# Altium footprint library AD.PcbLib: 13 footprints
Each footprint in its own frame and in the unit in brackets; x right, y up, seen from the top. Pads: shape width x height; smd on the part's side, far side on the other; paste and mask are expansions set on the pad; w line width, h text height; cw(c..) or ccw(c..) is an arc to the next point about the centre after c.
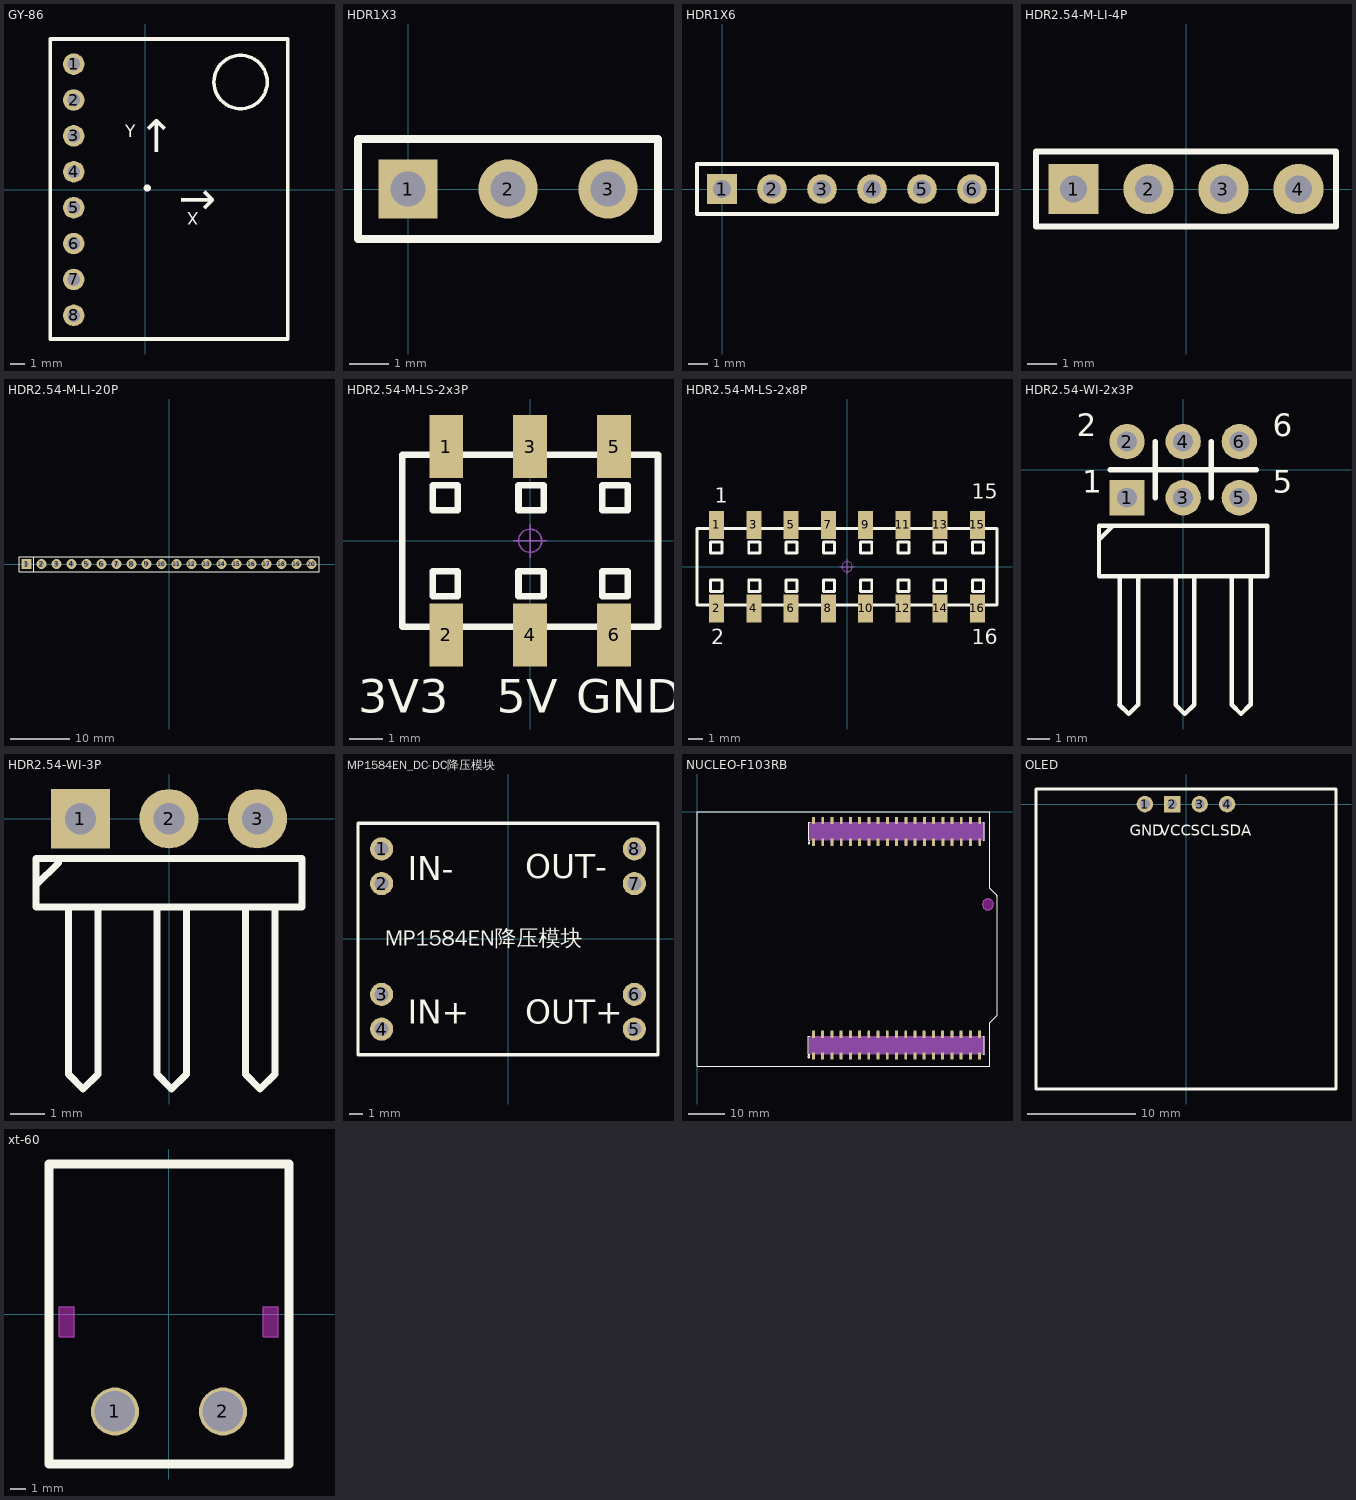
[diagram p0: the footprints below, top view; thin cyan lines are the x and y axes]

## GY-86 [mil]
pads (8):
  round 60 hole 36: 1(-200,350) 2(-200,250) 3(-200,150) 4(-200,50) 5(-200,-50) 6(-200,-150) 7(-200,-250) 8(-200,-350)
Top Overlay:
  circle w10: c265,300 r74.33
  circle w10: c5,5 r5
  lines w10: -265,-415.98 395.98,-415.98 395.98,420 -265,420 -265,-415.98
  text "↑" at 69.05,23.78 h157.48
  text "↑" at -20.95,73.78 h157.48
  text "Y" at -55.95,133.78 h59.05
  text "X" at 149.05,-50 h59.05

## HDR1X3 [mm] "Connector; Header; 3 Position"
pads (3):
  rect 1.5x1.5 hole 0.9: 1(0,0)
  round 1.5 hole 0.9: 2(2.54,0) 3(5.08,0)
Top Overlay:
  lines w0.2: -1.27,-1.27 6.35,-1.27 6.35,1.27 -1.27,1.27 -1.27,-1.27
3D body "HDR2.54-1P_M.STEP": height 8.5, standoff -3, extent 3.81,-1.27 6.35,1.27
3D body "HDR2.54-1P_M.STEP": height 8.5, standoff -3, extent 1.27,-1.27 3.81,1.27
3D body "HDR2.54-1P_M.STEP": height 8.5, standoff -3, extent -1.27,-1.27 1.27,1.27

## HDR1X6 [mm] "Connector; Header; 6 Position"
pads (6):
  rect 1.5x1.5 hole 0.9: 1(0,0)
  round 1.5 hole 0.9: 2(2.54,0) 3(5.08,0) 4(7.62,0) 5(10.16,0) 6(12.7,0)
Top Overlay:
  lines w0.2: -1.27,-1.27 13.97,-1.27 13.97,1.27 -1.27,1.27 -1.27,-1.27
3D body "HDR2.54-1P_M.STEP": height 8.5, standoff -3, extent -1.27,-1.27 1.27,1.27
3D body "HDR2.54-1P_M.STEP": height 8.5, standoff -3, extent 1.27,-1.27 3.81,1.27
3D body "HDR2.54-1P_M.STEP": height 8.5, standoff -3, extent 3.81,-1.27 6.35,1.27
3D body "HDR2.54-1P_M.STEP": height 8.5, standoff -3, extent 6.35,-1.27 8.89,1.27
3D body "HDR2.54-1P_M.STEP": height 8.5, standoff -3, extent 8.89,-1.27 11.43,1.27
3D body "HDR2.54-1P_M.STEP": height 8.5, standoff -3, extent 11.43,-1.27 13.97,1.27

## HDR2.54-M-LI-4P [mm] "排母，4脚"
pads (4):
  rect 1.7x1.7 hole 0.9: 1(-3.81,0)
  round 1.7 hole 0.9: 2(-1.27,0) 3(1.27,0) 4(3.81,0)
Top Overlay:
  lines w0.2: -5.08,-1.27 -5.08,1.27 5.08,1.27 5.08,-1.27 -5.08,-1.27
3D body "HDR2.54-1P_M.STEP": height 8.5, standoff -3, extent -5.08,-1.27 -2.54,1.27
3D body "HDR2.54-1P_M.STEP": height 8.5, standoff -3, extent -2.54,-1.27 0,1.27
3D body "HDR2.54-1P_M.STEP": height 8.5, standoff -3, extent 2.54,-1.27 5.08,1.27
3D body "HDR2.54-1P_M.STEP": height 8.5, standoff -3, extent 0,-1.27 2.54,1.27

## HDR2.54-M-LI-20P [mm] "排母，20脚"
pads (20):
  rect 1.7x1.7 hole 0.9: 1(-24.13,0)
  round 1.7 hole 0.9: 2(-21.59,0) 3(-19.05,0) 4(-16.51,0) 5(-13.97,0) 6(-11.43,0) 7(-8.89,0) 8(-6.35,0) 9(-3.81,0) 10(-1.27,0) 11(1.27,0) 12(3.81,0) 13(6.35,0) 14(8.89,0) 15(11.43,0) 16(13.97,0)
  round 1.7 hole 0.762: 17(16.51,0) 18(19.05,0) 19(21.59,0) 20(24.13,0)
Top Overlay:
  lines w0.2: -22.88,-1.25 -22.88,1.25 ; -25.4,-1.27 25.4,-1.27 25.4,1.27 -23.495,1.27 -25.4,1.27 -25.4,-1.27
3D body "HDR2.54-1P_M.STEP": height 8.5, standoff -3, extent -15.24,-1.27 -12.7,1.27
3D body "HDR2.54-1P_M.STEP": height 8.5, standoff -3, extent -17.78,-1.27 -15.24,1.27
3D body "HDR2.54-1P_M.STEP": height 8.5, standoff -3, extent -20.32,-1.27 -17.78,1.27
3D body "HDR2.54-1P_M.STEP": height 8.5, standoff -3, extent -22.86,-1.27 -20.32,1.27
3D body "HDR2.54-1P_M.STEP": height 8.5, standoff -3, extent -25.4,-1.27 -22.86,1.27
3D body "HDR2.54-1P_M.STEP": height 8.5, standoff -3, extent -2.54,-1.27 0,1.27
3D body "HDR2.54-1P_M.STEP": height 8.5, standoff -3, extent -5.08,-1.27 -2.54,1.27
3D body "HDR2.54-1P_M.STEP": height 8.5, standoff -3, extent -7.62,-1.27 -5.08,1.27
3D body "HDR2.54-1P_M.STEP": height 8.5, standoff -3, extent -10.16,-1.27 -7.62,1.27
3D body "HDR2.54-1P_M.STEP": height 8.5, standoff -3, extent -12.7,-1.27 -10.16,1.27
3D body "HDR2.54-1P_M.STEP": height 8.5, standoff -3, extent 10.16,-1.27 12.7,1.27
3D body "HDR2.54-1P_M.STEP": height 8.5, standoff -3, extent 7.62,-1.27 10.16,1.27
3D body "HDR2.54-1P_M.STEP": height 8.5, standoff -3, extent 5.08,-1.27 7.62,1.27
3D body "HDR2.54-1P_M.STEP": height 8.5, standoff -3, extent 2.54,-1.27 5.08,1.27
3D body "HDR2.54-1P_M.STEP": height 8.5, standoff -3, extent 0,-1.27 2.54,1.27
3D body "HDR2.54-1P_M.STEP": height 8.5, standoff -3, extent 22.86,-1.27 25.4,1.27
3D body "HDR2.54-1P_M.STEP": height 8.5, standoff -3, extent 20.32,-1.27 22.86,1.27
3D body "HDR2.54-1P_M.STEP": height 8.5, standoff -3, extent 17.78,-1.27 20.32,1.27
3D body "HDR2.54-1P_M.STEP": height 8.5, standoff -3, extent 15.24,-1.27 17.78,1.27
3D body "HDR2.54-1P_M.STEP": height 8.5, standoff -3, extent 12.7,-1.27 15.24,1.27

## HDR2.54-M-LS-2x3P [mm] "脚距：2.54mm，贴片双排母"
pads (6):
  rect 1.02x1.9 smd: 1(-2.54,2.85) 2(-2.54,-2.85) 3(0,2.85) 4(0,-2.85) 5(2.54,2.85) 6(2.54,-2.85)
Top Overlay:
  lines w0.2: -3.87,-2.6 3.87,-2.6 3.87,2.6 -3.87,2.6 -3.87,-2.6 ; -2.951,-1.681 -2.189,-1.681 -2.189,-0.919 -2.951,-0.919 -2.951,-1.681 ; -2.951,0.919 -2.189,0.919 -2.189,1.681 -2.951,1.681 -2.951,0.919 ; -0.351,-1.681 0.411,-1.681 0.411,-0.919 -0.351,-0.919 -0.351,-1.681 ; -0.351,0.919 0.411,0.919 0.411,1.681 -0.351,1.681 -0.351,0.919 ; 2.189,-1.681 2.189,-0.919 2.951,-0.919 2.951,-1.681 2.189,-1.681 ; 2.189,0.919 2.189,1.681 2.951,1.681 2.951,0.919 2.189,0.919
  text "5V" at -1.016,-5.207 h1.02
  text "3V3" at -5.207,-5.207 h1.02
  text "GND" at 1.397,-5.207 h1.02
Top Courtyard:
  circle w0.05: c0,0 r0.35
  lines w0.05: -0.5,0 0.5,0 ; 0,-0.5 0,0.5
3D body "HDR2.54 2x1P_M.STEP": height 5.15, standoff 0, extent -3.84,-3.2 -1.24,3.2
3D body "HDR2.54 2x1P_M.STEP": height 5.15, standoff 0, extent -1.3,-3.2 1.3,3.2
3D body "HDR2.54 2x1P_M.STEP": height 5.15, standoff 0, extent 1.24,-3.2 3.84,3.2

## HDR2.54-M-LS-2x8P [mm] "脚距：2.54mm，贴片双排母"
pads (16):
  rect 1.02x1.9 smd: 1(-8.89,2.85) 2(-8.89,-2.85) 3(-6.35,2.85) 4(-6.35,-2.85) 5(-3.81,2.85) 6(-3.81,-2.85) 7(-1.27,2.85) 8(-1.27,-2.85) 9(1.27,2.85) 10(1.27,-2.85) 11(3.81,2.85) 12(3.81,-2.85) 13(6.35,2.85) 14(6.35,-2.85) 15(8.89,2.85) 16(8.89,-2.85)
Top Overlay:
  lines w0.2: -10.23,-2.6 -10.23,2.6 10.22,2.6 10.22,-2.6 -10.23,-2.6 ; -9.301,-1.681 -9.301,-0.919 -8.539,-0.919 -8.539,-1.681 -9.301,-1.681 ; -9.301,0.919 -9.301,1.681 -8.539,1.681 -8.539,0.919 -9.301,0.919 ; -6.701,-1.681 -6.701,-0.919 -5.939,-0.919 -5.939,-1.681 -6.701,-1.681 ; -6.701,0.919 -6.701,1.681 -5.939,1.681 -5.939,0.919 -6.701,0.919 ; -4.161,-1.681 -3.399,-1.681 -3.399,-0.919 -4.161,-0.919 -4.161,-1.681 ; -4.161,0.919 -3.399,0.919 -3.399,1.681 -4.161,1.681 -4.161,0.919 ; -1.621,-1.681 -1.621,-0.919 -0.859,-0.919 -0.859,-1.681 -1.621,-1.681 ; -1.621,0.919 -1.621,1.681 -0.859,1.681 -0.859,0.919 -1.621,0.919 ; 0.919,-1.681 0.919,-0.919 1.681,-0.919 1.681,-1.681 0.919,-1.681 ; 0.919,0.919 0.919,1.681 1.681,1.681 1.681,0.919 0.919,0.919 ; 3.459,-1.681 3.459,-0.919 4.221,-0.919 4.221,-1.681 3.459,-1.681 ; 3.459,0.919 3.459,1.681 4.221,1.681 4.221,0.919 3.459,0.919 ; 5.939,-1.681 6.701,-1.681 6.701,-0.919 5.939,-0.919 5.939,-1.681 ; 5.939,0.919 6.701,0.919 6.701,1.681 5.939,1.681 5.939,0.919 ; 8.539,-1.681 9.301,-1.681 9.301,-0.919 8.539,-0.919 8.539,-1.681 ; 8.539,0.919 9.301,0.919 9.301,1.681 8.539,1.681 8.539,0.919
  text "16" at 8.509,-5.278 h1.02
  text "15" at 8.509,4.628 h1.02
  text "1" at -9.017,4.374 h1.02
  text "2" at -9.271,-5.278 h1.02
Top Courtyard:
  circle w0.05: c0,0 r0.35
  lines w0.05: -0.5,0 0.5,0 ; 0,-0.5 0,0.5
3D body "HDR2.54 2x1P_M.STEP": height 5.15, standoff 0, extent -5.11,-3.2 -2.51,3.2
3D body "HDR2.54 2x1P_M.STEP": height 5.15, standoff 0, extent -7.65,-3.2 -5.05,3.2
3D body "HDR2.54 2x1P_M.STEP": height 5.15, standoff 0, extent -10.19,-3.2 -7.59,3.2
3D body "HDR2.54 2x1P_M.STEP": height 5.15, standoff 0, extent -2.57,-3.2 0.03,3.2
3D body "HDR2.54 2x1P_M.STEP": height 5.15, standoff 0, extent -0.03,-3.2 2.57,3.2
3D body "HDR2.54 2x1P_M.STEP": height 5.15, standoff 0, extent 2.51,-3.2 5.11,3.2
3D body "HDR2.54 2x1P_M.STEP": height 5.15, standoff 0, extent 5.05,-3.2 7.65,3.2
3D body "HDR2.54 2x1P_M.STEP": height 5.15, standoff 0, extent 7.59,-3.2 10.19,3.2

## HDR2.54-WI-2x3P [mm] "双排弯脚排针，3x2脚"
pads (6):
  rect 1.6x1.6 hole 0.9: 1(-2.54,-1.27)
  round 1.6 hole 0.9: 2(-2.54,1.27) 3(0,-1.27) 4(0,1.27) 5(2.54,-1.27) 6(2.54,1.27)
Top Overlay:
  lines w0.2: -3.81,-3.175 -3.175,-2.54 ; -2.888,-10.634 -2.465,-11.057 -2.041,-10.634 -2.032,-10.625 -2.032,-4.826 ; -2.879,-10.634 -2.879,-4.826 ; -0.348,-10.634 0.075,-11.057 0.499,-10.634 ; -0.339,-10.634 -0.339,-4.826 ; 0.508,-10.634 0.508,-4.826 ; 2.192,-10.634 2.615,-11.057 3.039,-10.634 ; 2.201,-10.634 2.201,-4.826 ; 3.048,-10.634 3.048,-4.826 ; -3.81,-4.826 3.81,-4.826 3.81,-2.54 -3.81,-2.54 -3.81,-4.826
  lines w0.254: -3.302,0 3.302,0 ; -1.27,-1.27 -1.27,1.27 ; 1.27,-1.27 1.27,1.27
  text "6" at 4.064,1.503 h1.02
  text "5" at 4.064,-1.037 h1.02
  text "2" at -4.826,1.503 h1.02
  text "1" at -4.572,-1.037 h1.02
Bottom Overlay:
  lines w0.254: -3.302,0 3.302,0 ; -1.27,-1.27 -1.27,1.27 ; 1.27,-1.27 1.27,1.27
3D body "HDR-1x2_H.STEP": height 5.1, standoff -3, extent -1.27,-10.489 1.27,2.361
3D body "HDR-1x2_H.STEP": height 5.1, standoff -3, extent -3.81,-10.489 -1.27,2.361
3D body "HDR-1x2_H.STEP": height 5.1, standoff -3, extent 1.27,-10.489 3.81,2.361

## HDR2.54-WI-3P [mm] "弯脚排针，3脚"
pads (3):
  rect 1.7x1.7 hole 0.9: 1(-2.54,0)
  round 1.7 hole 0.9: 2(0,0) 3(2.54,0)
Top Overlay:
  lines w0.2: -3.81,-1.905 -3.175,-1.27 ; -2.888,-2.54 -2.888,-7.332 -2.465,-7.755 -2.041,-7.332 -2.032,-7.323 ; -2.041,-7.323 -2.041,-2.54 ; -0.348,-2.54 -0.348,-7.332 0.075,-7.755 0.499,-7.332 ; 0.499,-7.323 0.499,-2.54 ; 2.192,-2.54 2.192,-7.332 2.615,-7.755 3.039,-7.332 ; 3.039,-7.323 3.039,-2.54 ; -3.81,-2.54 -3.81,-1.143 -2.032,-1.143 3.81,-1.143 3.81,-2.54 -3.81,-2.54
3D body "HDR2.54-1P_H.STEP": height 4.85, standoff -3, extent 1.27,-7.77 3.81,1.27
3D body "HDR2.54-1P_H.STEP": height 4.85, standoff -3, extent -1.27,-7.77 1.27,1.27
3D body "HDR2.54-1P_H.STEP": height 4.85, standoff -3, extent -3.81,-7.77 -1.27,1.27

## MP1584EN_DC-DC降压模块 [mm]
pads (8):
  round 1.7 hole 1.05 paste-2539.97 mask+0.051: 1(-9.271,6.604) 2(-9.271,4.064) 3(-9.271,-4.064) 4(-9.271,-6.604) 5(9.271,-6.604) 6(9.271,-4.064) 7(9.271,4.064) 8(9.271,6.604)
Top Overlay:
  lines w0.254: -11,-8.5 11,-8.5 11,8.5 -11,8.5 -11,-8.5
  text "MP1584EN降压模块" at -9.017,-0.889 h2.03
  text "OUT+" at 1.27,-6.223 h1.78
  text "OUT-" at 1.27,4.445 h1.78
  text "IN+" at -7.366,-6.223 h1.78
  text "IN-" at -7.366,4.318 h1.78

## NUCLEO-F103RB [mm]
pads (76):
  rect 0.8x2 smd paste+0 mask+0.051: 1(32,-67.2) 2(32,-61.2) 3(34.54,-67.2) 4(34.54,-61.2) 5(37.08,-67.2) 6(37.08,-61.2) 7(39.62,-67.2) 8(39.62,-61.2) 9(42.16,-67.2) 10(42.16,-61.2) 11(44.7,-67.2) 12(44.7,-61.2) 13(47.24,-67.2) 14(47.24,-61.2) 15(49.78,-67.2) 16(49.78,-61.2) 17(52.32,-67.2) 18(52.32,-61.2) 19(54.86,-67.2) 20(54.86,-61.2) 21(57.4,-67.2) 22(57.4,-61.2) 23(59.94,-67.2) 24(59.94,-61.2) 25(62.48,-67.2) 26(62.48,-61.2) 27(65.02,-67.2) 28(65.02,-61.2) 29(67.56,-67.2) 30(67.56,-61.2) 31(70.1,-67.2) 32(70.1,-61.2) 33(72.64,-67.2) 34(72.64,-61.2) 35(75.18,-67.2) 36(75.18,-61.2) 37(77.72,-67.2) 38(77.72,-61.2) 73(32.04,-8.4) 74(32.04,-2.4) 75(34.58,-8.4) 76(34.58,-2.4) 77(37.12,-8.4) 78(37.12,-2.4) 79(39.66,-8.4) 80(39.66,-2.4) 81(42.2,-8.4) 82(42.2,-2.4) 83(44.74,-8.4) 84(44.74,-2.4) 85(47.28,-8.4) 86(47.28,-2.4) 87(49.82,-8.4) 88(49.82,-2.4) 89(52.36,-8.4) 90(52.36,-2.4) 91(54.9,-8.4) 92(54.9,-2.4) 93(57.44,-8.4) 94(57.44,-2.4) 95(59.98,-8.4) 96(59.98,-2.4) 97(62.52,-8.4) 98(62.52,-2.4) 99(65.06,-8.4) 100(65.06,-2.4) 101(67.6,-8.4) 102(67.6,-2.4) 103(70.14,-8.4) 104(70.14,-2.4) 105(72.68,-8.4) 106(72.68,-2.4) 107(75.22,-8.4) 108(75.22,-2.4) 109(77.76,-8.4) 110(77.76,-2.4)
Top Overlay:
  circle w0.254: c30.73,-67.375 r0.231
  circle w0.254: c30.77,-8.575 r0.231
  lines w0.254: 30.963,-61.7 30.66,-61.7 30.66,-66.7 30.988,-66.7 ; 30.963,-2.9 30.7,-2.9 30.7,-7.9 30.988,-7.9 ; 78.664,-66.7 78.96,-66.7 78.96,-61.7 78.689,-61.7 ; 78.765,-7.9 79,-7.9 79,-2.9 78.765,-2.9 ; 82.5,-23 82.5,-23.2 82.5,-23 ; 82.5,-23 80.5,-21 80.5,0 0,0 0,-70 80.5,-70 80.5,-58 82.5,-56 82.5,-23
Keep-Out Layer:
  board cut-out: 81.5,-25.5 81.5,-25.648 81.442,-25.938 81.329,-26.211 81.165,-26.456 80.956,-26.665 80.71,-26.829 80.437,-26.942 80.148,-27 79.852,-27 79.562,-26.942 79.289,-26.829 79.044,-26.665 78.835,-26.456 78.671,-26.211 78.557,-25.938 78.5,-25.648 78.5,-25.5 78.5,-25.352 78.557,-25.063 78.671,-24.79 78.835,-24.544 79.044,-24.335 79.289,-24.171 79.562,-24.058 79.852,-24 80.148,-24 80.437,-24.058 80.71,-24.171 80.956,-24.335 81.165,-24.544 81.329,-24.79 81.442,-25.063 81.5,-25.352 81.5,-25.5
Keep-Out Layer:
  circle w0.003: c80,-25.5 r1.5
  region: 81.5,-25.5 81.49,-25.674 81.459,-25.846 81.409,-26.013 81.34,-26.173 81.253,-26.324 81.149,-26.464 81.029,-26.591 80.896,-26.703 80.75,-26.799 80.594,-26.877 80.43,-26.937 80.26,-26.977 80.087,-26.998 79.913,-26.998 79.739,-26.977 79.57,-26.937 79.406,-26.877 79.25,-26.799 79.104,-26.703 78.97,-26.591 78.851,-26.464 78.747,-26.324 78.659,-26.173 78.59,-26.013 78.54,-25.846 78.51,-25.674 78.5,-25.5 78.51,-25.326 78.54,-25.154 78.59,-24.987 78.659,-24.827 78.747,-24.676 78.851,-24.536 78.97,-24.409 79.104,-24.297 79.25,-24.201 79.406,-24.123 79.57,-24.063 79.739,-24.023 79.913,-24.003 80.087,-24.003 80.26,-24.023 80.43,-24.063 80.594,-24.123 80.75,-24.201 80.896,-24.297 81.029,-24.409 81.149,-24.536 81.253,-24.676 81.34,-24.827 81.409,-24.987 81.459,-25.154 81.49,-25.326
  region: 81.5,-25.5 81.5,-25.648 81.442,-25.938 81.329,-26.211 81.165,-26.456 80.956,-26.665 80.71,-26.829 80.437,-26.942 80.148,-27 79.852,-27 79.562,-26.942 79.289,-26.829 79.044,-26.665 78.835,-26.456 78.671,-26.211 78.557,-25.938 78.5,-25.648 78.5,-25.5 78.5,-25.352 78.557,-25.063 78.671,-24.79 78.835,-24.544 79.044,-24.335 79.289,-24.171 79.562,-24.058 79.852,-24 80.148,-24 80.437,-24.058 80.71,-24.171 80.956,-24.335 81.165,-24.544 81.329,-24.79 81.442,-25.063 81.5,-25.352 81.5,-25.5
Mechanical 1:
  circle w0.003: c80,-25.5 r1.5
Mechanical 7:
  region: 30.73,-66.7 30.73,-61.7 78.99,-61.7 78.99,-66.7
  region: 30.77,-7.9 30.77,-2.9 79.03,-2.9 79.03,-7.9
Mechanical 8:
  region: 30.76,-67.77 30.76,-67.782 30.742,-67.8 30.718,-67.8 30.7,-67.782 30.7,-67.77 30.7,-67.757 30.718,-67.74 30.742,-67.74 30.76,-67.757 30.76,-67.77
  region: 30.8,-8.97 30.8,-8.982 30.782,-9 30.757,-9 30.74,-8.982 30.74,-8.97 30.74,-8.957 30.757,-8.94 30.782,-8.94 30.8,-8.957 30.8,-8.97
Top Assembly:
  drawing of 76 lines, arcs and shapes, not listed

## OLED [mil]
pads (4):
  round 60 hole 35.98: 1(-150,0) 3(50,0) 4(150,0)
  rect 60x60 hole 35.98: 2(-50,0)
Top Overlay:
  lines w10: -547.24,-1039.37 -547.24,55.12 547.24,55.12 547.24,-1039.37 -547.24,-1039.37
  text "GND" at -205,-115.9 h39.37
  text "VCC" at -95.37,-115.9 h39.37
  text "SCL" at 17.87,-115.9 h39.37
  text "SDA" at 125,-115.9 h39.37

## xt-60 [mm]
pads (2):
  round 3.2 hole 2.7: 1(-3.6,-6.5) 2(3.6,-6.5)
Top Overlay:
  lines w0.6: -8,-10 8,-10 8,10 -8,10 -8,-10
Keep-Out Layer:
  board cut-out: -7.3,0.5 -7.3,-1.5 -6.3,-1.5 -6.3,0.5
  board cut-out: 6.3,0.5 6.3,-1.5 7.3,-1.5 7.3,0.5
Keep-Out Layer:
  region: -7.3,0.5 -7.3,-1.5 -6.3,-1.5 -6.3,0.5
  region: -7.3,0.5 -7.3,-1.5 -6.3,-1.5 -6.3,0.5
  region: 6.3,0.5 6.3,-1.5 7.3,-1.5 7.3,0.5
  region: 6.3,0.5 6.3,-1.5 7.3,-1.5 7.3,0.5
  lines w0.003: -7.3,-1.5 -6.3,-1.5 -6.3,0.5 -7.3,0.5 -7.3,-1.5 ; 6.3,-1.5 7.3,-1.5 7.3,0.5 6.3,0.5 6.3,-1.5
Mechanical 1:
  lines w0.003: -7.3,-1.5 -6.3,-1.5 -6.3,0.5 -7.3,0.5 -7.3,-1.5 ; 6.3,-1.5 7.3,-1.5 7.3,0.5 6.3,0.5 6.3,-1.5